# EAGLE library part CH340G (library ch340)
CH340G CH340G <https://raw.githubusercontent.com/Thore-Krug/ch340/master/datasheets/ch340-datasheet-englisch-rev2.pdf> The CH340G is a SOP16 USB to UART adapter, it supports 5V and 3V3 IO Voltage.
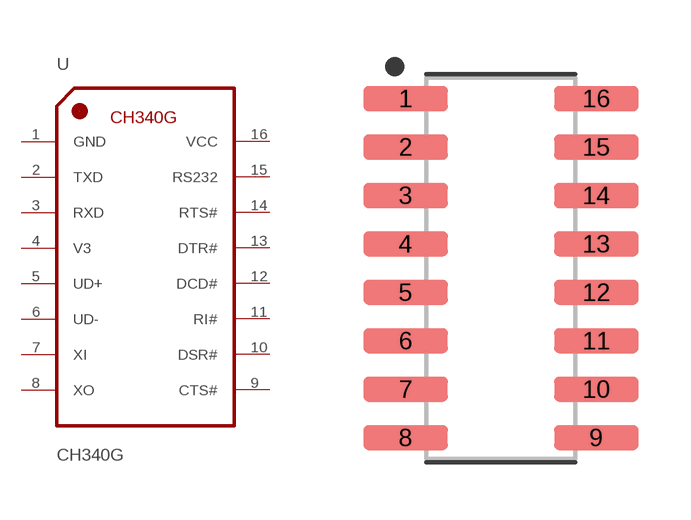
[diagram p5: symbol with the pads of SOIC127P600X180-16M; footprint SOIC127P600X180-16M]

Designator prefix U

## CH340G (MFG: WCH; MPN: CH340G; OC_LCSC: C14267)  [SOIC127P600X180-16M]
1  GND  pas
2  TXD  out
3  RXD  in
4  V3  pwr
5  UD+
6  UD-
7  XI  in
8  XO  out
9  CTS#  in
10  DSR#  in
11  RI#  in
12  DCD#  in
13  DTR#  out
14  RTS#  out
15  RS232  in
16  VCC  pwr

## Footprint SOIC127P600X180-16M (pad centres in mm)
16-SOIC, 1.27 mm pitch, 6.00 mm span, 10.00 X 3.90 X 1.80 mm body 16-pin SOIC package with 1.27 mm pitch, 6.00 mm span with body size 10.00 X 3.90 X 1.80 mm
smd 2.216 x 0.662: 1 -2.498,4.445; 2 -2.498,3.175; 3 -2.498,1.905; 4 -2.498,0.635; 5 -2.498,-0.635; 6 -2.498,-1.905; 7 -2.498,-3.175; 8 -2.498,-4.445; 9 2.498,-4.445; 10 2.498,-3.175; 11 2.498,-1.905; 12 2.498,-0.635; 13 2.498,0.635; 14 2.498,1.905; 15 2.498,3.175; 16 2.498,4.445